# EAGLE library part ANALOG_DEVICES-CLOCK_GENERATOR-LTC6906 (library Module_ICs)
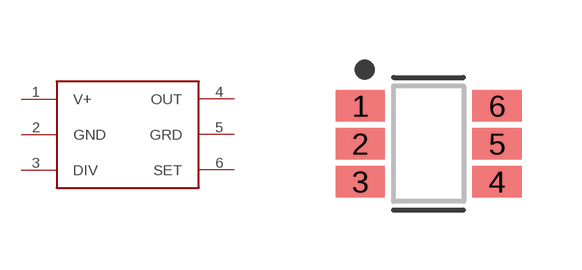
[diagram p48: symbol with the pads of ANALOG_DEVICES-CLOCK_GENERATOR-LTC6906; footprint ANALOG_DEVICES-CLOCK_GENERATOR-LTC6906]

Designator prefix U

## ANALOG_DEVICES-CLOCK_GENERATOR-LTC6906  [ANALOG_DEVICES-CLOCK_GENERATOR-LTC6906]
1  V+
2  GND
3  DIV
4  OUT
5  GRD
6  SET

## Footprint ANALOG_DEVICES-CLOCK_GENERATOR-LTC6906 (pad centres in mm)
6-SOT23, 0.95 mm pitch, 3.85 mm span, 2.90 X 1.63 X 1.00 mm body 6-pin SOT23 package with 0.95 mm pitch, 3.85 mm span with body size 2.90 X 1.63 X 1.00 mm
smd 1.237 x 0.792: 1 -1.712,0.95; 2 -1.712,0; 3 -1.712,-0.95; 4 1.712,-0.95; 5 1.712,0; 6 1.712,0.95